# EAGLE library part AD8319 (library rf-jqi)
Analog devices AD8319 Log power detector/controller.
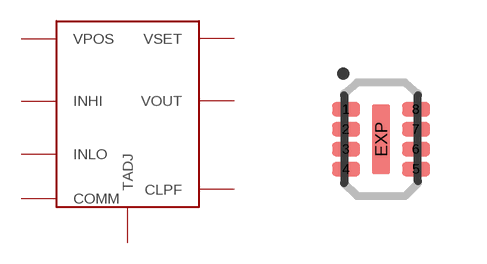
[diagram p12: symbol with the pads of LFCSP-CP-8-1; footprint LFCSP-CP-8-1]

Designator prefix RF

## AD8319 (PARTNUM: AD8319ACPZ-R7CT-ND)  [LFCSP-CP-8-1]
1  INHI
2  COMM
3  CLPF
4  VSET
5  VOUT
6  TADJ
7  VPOS
8  INLO
EXP  COMM

## Footprint LFCSP-CP-8-1 (pad centres in mm)
CP-8-1 package option for analog devices LFCSP_VD chip-scale package.
smd 0.7 x 0.35: 1 -0.875,0.75; 2 -0.875,0.25; 3 -0.875,-0.25; 4 -0.875,-0.75; 5 0.875,-0.75; 6 0.875,-0.25; 7 0.875,0.25; 8 0.875,0.75
smd 0.45 x 1.74: EXP 0,0